# EAGLE library part XBEE (library rc)
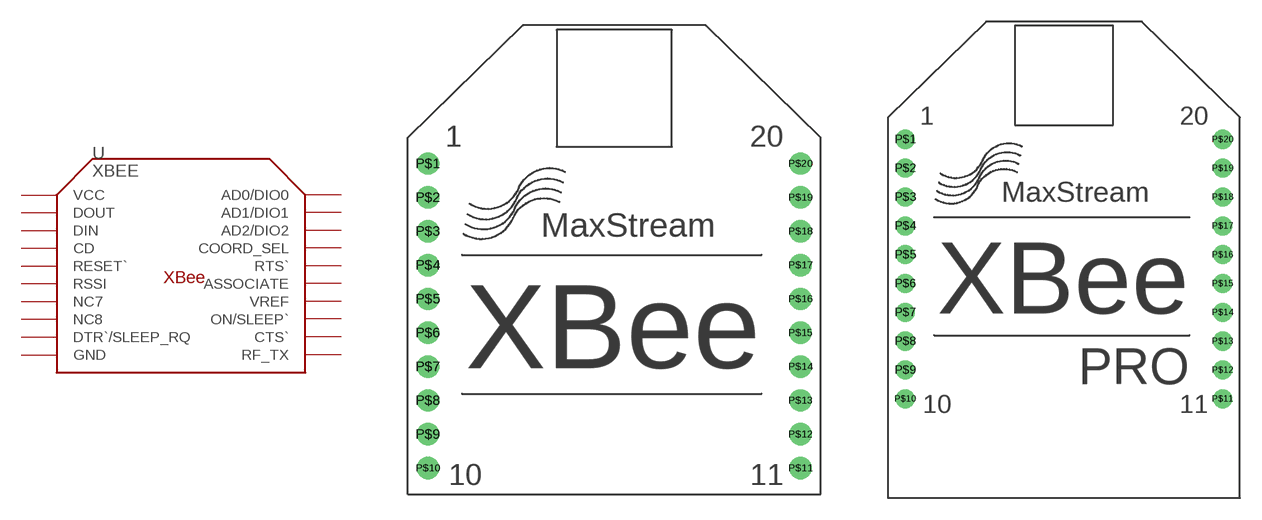
[diagram p0: symbol with the pads of XBEE; footprints XBEE, XBEEPRO]

Designator prefix -

## XBEEXBEE  [XBEE]
P$1  VCC  pwr
P$2  DOUT  out
P$3  DIN  in
P$4  CD  out
P$5  RESET`  in
P$6  RSSI  out
P$7  NC7  nc
P$8  NC8  nc
P$9  DTR`/SLEEP_RQ  in
P$10  GND  pwr
P$11  RF_TX
P$12  CTS`
P$13  ON/SLEEP`  out
P$14  VREF  in
P$15  ASSOCIATE
P$16  RTS`
P$17  COORD_SEL
P$18  AD2/DIO2
P$19  AD1/DIO1
P$20  AD0/DIO0

## XBEEXBEEPRO  [XBEEPRO]
Pads as for XBEE

## Footprint XBEE (pad centres in mm)
drill 0.813 round: P$1 -11,9; P$2 -11,7; P$3 -11,5; P$4 -11,3; P$5 -11,1; P$6 -11,-1; P$7 -11,-3; P$8 -11,-5; P$9 -11,-7; P$10 -11,-9; P$11 11,-9; P$12 11,-7; P$13 11,-5; P$14 11,-3; P$15 11,-1; P$16 11,1; P$17 11,3; P$18 11,5; P$19 11,7; P$20 11,9

## Footprint XBEEPRO (pad centres in mm)
drill 0.813 round: P$1 -11,9; P$2 -11,7; P$3 -11,5; P$4 -11,3; P$5 -11,1; P$6 -11,-1; P$7 -11,-3; P$8 -11,-5; P$9 -11,-7; P$10 -11,-9; P$11 11,-9; P$12 11,-7; P$13 11,-5; P$14 11,-3; P$15 11,-1; P$16 11,1; P$17 11,3; P$18 11,5; P$19 11,7; P$20 11,9